# Altium footprint library MAIN_PCB_LIBRARY.PcbLib: 1 footprints
Each footprint in its own frame and in the unit in brackets; x right, y up, seen from the top. Pads: shape width x height; smd on the part's side, far side on the other; paste and mask are expansions set on the pad; w line width, h text height; cw(c..) or ccw(c..) is an arc to the next point about the centre after c.
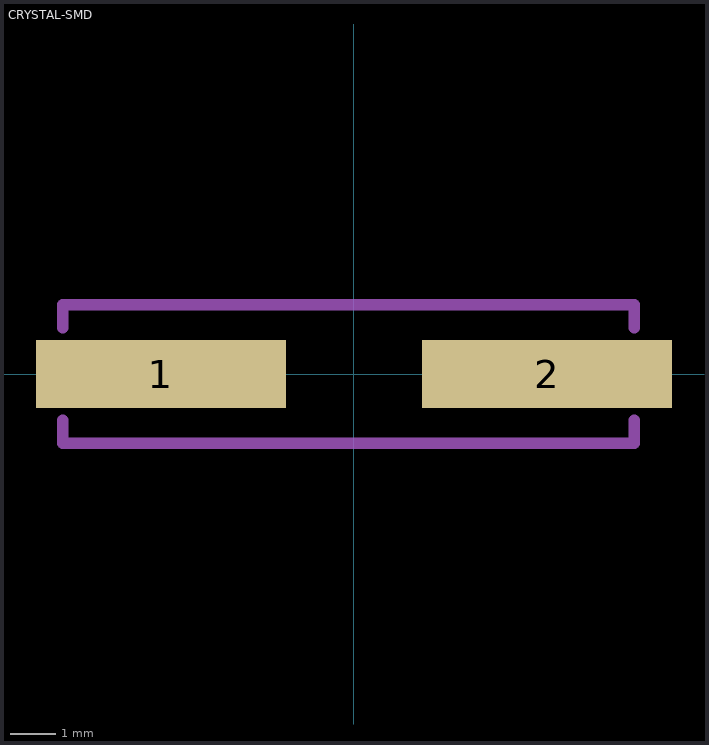
[diagram p0: the footprint, top view; thin cyan lines are the x and y axes]

## CRYSTAL-SMD [mm]
pads (2):
  rect 5.5x1.5 smd: 1(-4.25,0) 2(4.25,0)
Mechanical 1:
  lines w0.254: -6.409,-1.016 -6.409,-1.524 2.608,-1.524 6.164,-1.524 6.164,-1.016 ; -6.409,1.016 -6.409,1.524 2.608,1.524 6.164,1.524 6.164,1.016
3D body "User Library-SMU-4.STEP": height 4, standoff 0, extent -5.869,-2.273 6.631,2.527